# Altium schematic symbol library TPS54XXp.SchLib: 1 symbol
Pins are listed as number, name and electrical type; pins without a type are passive.

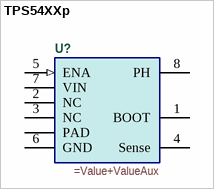
[diagram p0: symbol TPS54XXp]

## TPS54XXp
designator U?
=Description
pins: 1 BOOT, 2 NC, 3 NC, 4 Sense, 5 ENA (in), 6 GND, 7 VIN (power), 8 PH (power), PAD